# Altium footprint library AWT.PcbLib: 14 footprints
Each footprint in its own frame and in the unit in brackets; x right, y up, seen from the top. Pads: shape width x height; smd on the part's side, far side on the other; paste and mask are expansions set on the pad; w line width, h text height; cw(c..) or ccw(c..) is an arc to the next point about the centre after c.
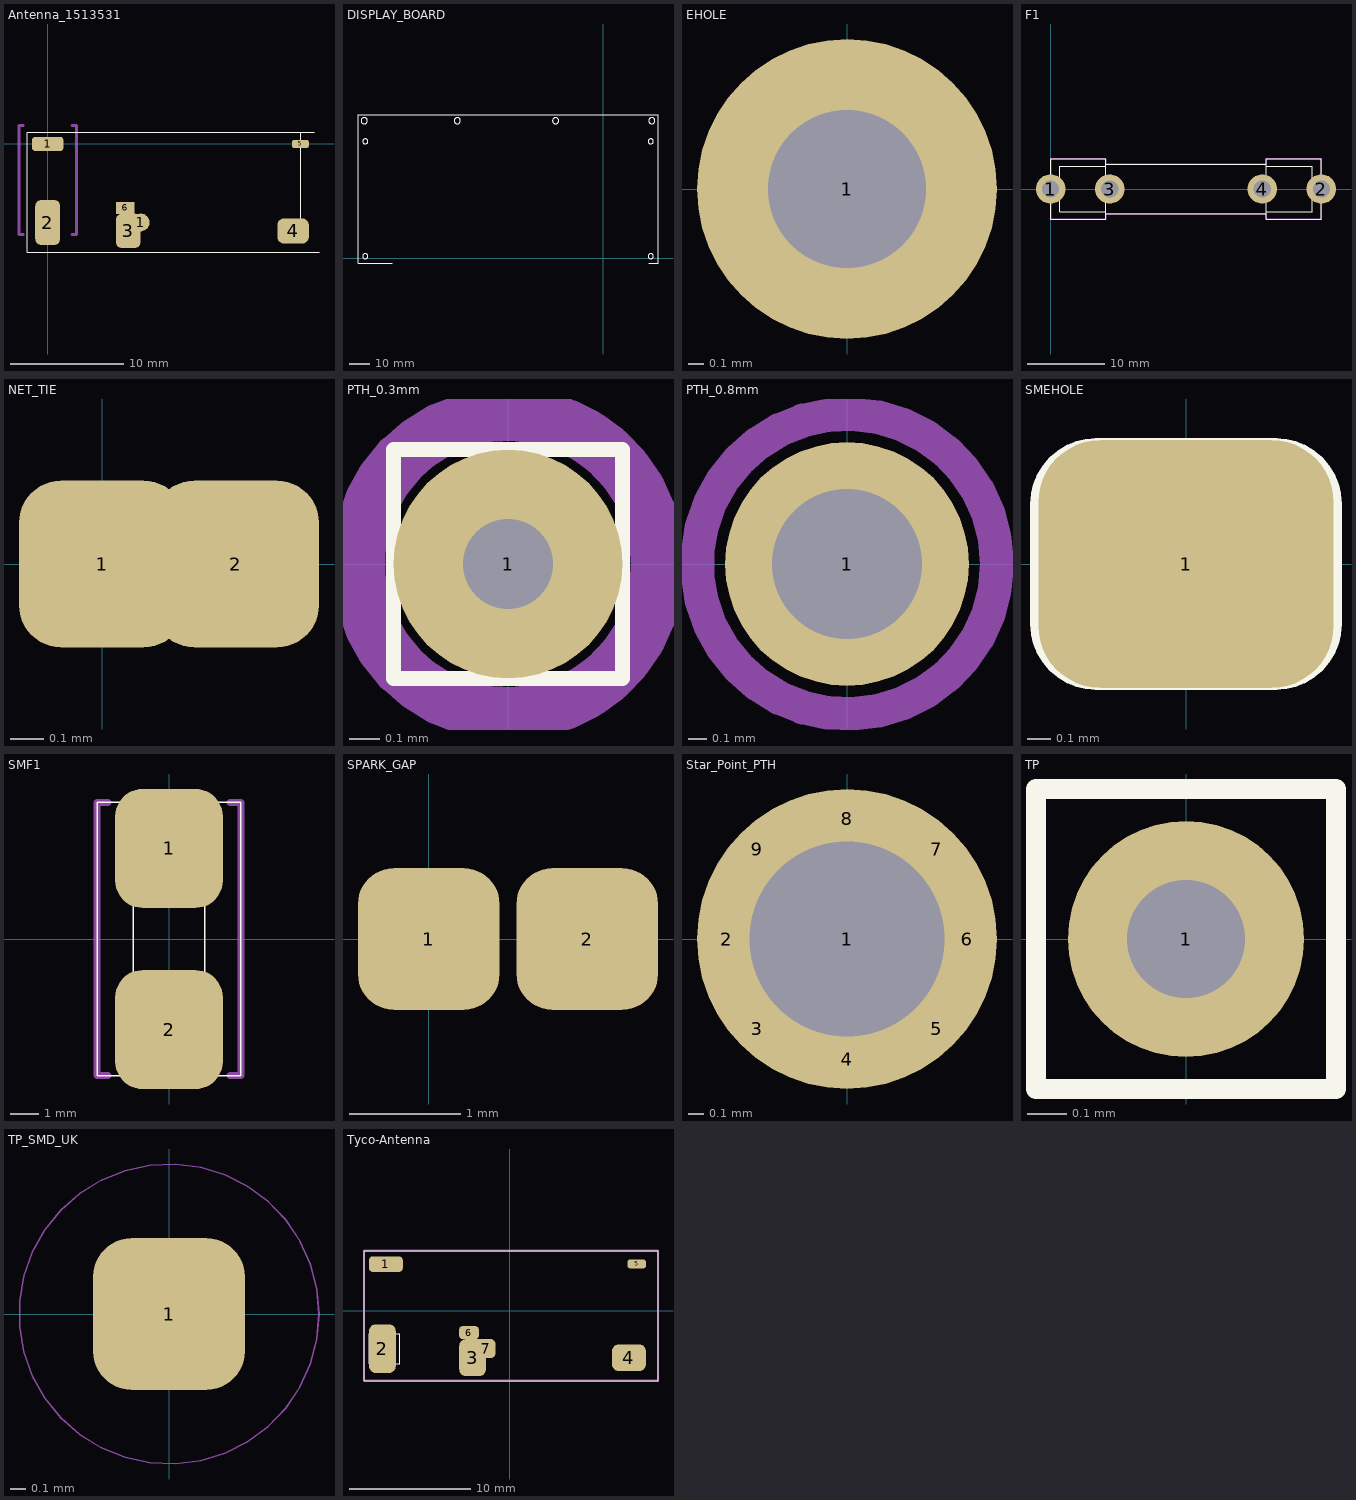
[diagram p0: the footprints below, top view; thin cyan lines are the x and y axes]

## Antenna_1513531 [mm]
pads (7):
  rrect50% 2.794x1.27 smd: 1(0,0)
  round 1.578 all layers, no hole: 1(8.225,-6.95)
  rrect50% 2.21x4.01 smd: 2(0,-6.952)
  rrect50% 2.2x3.056 smd: 3(7.127,-7.692)
  rrect50% 2.794x2.21 smd: 4(21.709,-7.701)
  rrect50% 1.5x0.71 smd: 5(22.351,0)
  rect 1.613x1.059 all layers, no hole: 6(6.85,-5.65)
Top Overlay:
  lines w0.05: -1.8,1 -1.8,-9.6 24,-9.6 ; -1.8,1.02 23.575,1.02 ; 22.4,-8.676 22.4,0.976
Comp Silk:
  lines w0.25: -2.159,-8.026 -2.54,-8.026 -2.54,1.626 -2.159,1.626 ; 2.159,-8.026 2.54,-8.026 2.54,1.626 2.159,1.626
  text ".Designator" at -0.762,-7.899 h1.5

## DISPLAY_BOARD [mm] "Size 145 x 72.5mm, Rev. 1"
height 16.5
pads (1):
  round 0 all layers, no hole: 1(0,0)
Top Overlay:
  circle w0.05: c23,56.5 r1.25
  circle w0.05: c-115,56.5 r1.25
  circle w0.05: c-115,1 r1.25
  circle w0.05: c23,1 r1.25
  circle w0.05: c-23,66.5 r1.5
  circle w0.05: c-70.5,66.5 r1.5
  circle w0.05: c23.5,66.5 r1.5
  circle w0.05: c-115.5,66.5 r1.5
  lines w0.05: -102,-2.5 -118.5,-2.5 -118.5,69.5 0.5,69.5 26.5,69.5 26.5,-2.5 22,-2.5
Comp Silk:
  text ".Designator" at -0.762,0.381 h1.5

## EHOLE [mm]
pads (1):
  round 1.9 / inner round 1 / far side round 1.9 hole 1: 1(0,0)
Top Overlay:
  circle w0.05: c0,0 r0.508
Comp Silk:
  text ".Designator" at -0.762,0.381 h1.5

## F1 [mm]
height 10.668
pads (4):
  round 3.8 / inner round 2.2 / far side round 3.8 hole 2.2: 1(0,0) 2(34.925,0) 3(7.62,0) 4(27.305,0)
Top Overlay:
  lines w0.05: 0,-0.762 1.143,-0.762 ; 0,0.762 1.143,0.762 ; 7.112,-3.175 27.813,-3.175 ; 7.112,-2.921 1.143,-2.921 1.143,2.921 7.112,2.921 ; 7.112,3.175 27.813,3.175 ; 27.813,-2.921 33.782,-2.921 33.782,2.921 27.813,2.921 ; 33.782,-0.762 34.925,-0.762 ; 33.782,0.762 34.925,0.762 ; 0,-3.937 7.112,-3.937 7.112,3.937 0,3.937 0,0 0,-3.937 ; 27.813,-3.937 34.925,-3.937 34.925,3.937 27.813,3.937 27.813,0 27.813,-3.937
Comp Silk:
  lines w0.18: 0,-3.937 7.112,-3.937 7.112,-3.175 27.813,-3.175 27.813,-3.937 34.925,-3.937 34.925,3.937 27.813,3.937 27.813,3.175 7.112,3.175 7.112,3.937 0,3.937 0,0 0,-3.937
  text ".Designator" at 8.763,1.016 h1.52

## NET_TIE [mm] "Intended copper short between nets."
pads (2):
  rrect50% 0.5x0.5 smd: 1(0,0) 2(0.4,0)
Comp Silk:
  text ".Designator" at 0.1,0.4 h1.5

## PTH_0.3mm [mil] "Hole for soldering wire to. Rev.1"
height 0.39
pads (1):
  round 30 hole 11.81: 1(0,0)
Top Overlay:
  lines w1.97: -15,-15 15,-15 15,-7.5 15,7.5 15,15 7.5,15 -7.5,15 -15,15 -15,-15
Comp Silk:
  circle w7.09: c0,0 r19.68
  text ".Designator" at -43.31,-11.81 h59.06

## PTH_0.8mm [mm] "Hole for soldering wire to. Rev.1"
height 0.01
pads (1):
  round 1.3 hole 0.8: 1(0,0)
Top Overlay:
  lines w0.05: -0.381,-0.381 0.381,-0.381 0.381,-0.191 0.381,0.191 0.381,0.381 0.191,0.381 -0.191,0.381 -0.381,0.381 -0.381,-0.381
Comp Silk:
  circle w0.18: c0,0 r0.8
  text ".Designator" at -1.1,-0.3 h1.5

## SMEHOLE [mm]
pads (1):
  rrect50% 1.25x1.05 smd: 1(0,0)
Top Overlay:
  lines w0.05: -0.635,-0.254 ccw(c-0.381,-0.254) -0.381,-0.508 0.381,-0.508 ccw(c0.381,-0.254) 0.635,-0.254 0.635,0.254 ccw(c0.381,0.254) 0.381,0.508 -0.381,0.508 ccw(c-0.381,0.254) -0.635,0.254 -0.635,-0.254
Comp Silk:
  text ".Designator" at -0.762,0.254 h1.5

## SMF1 [mm]
pads (2):
  rrect50% 3.8x4.2 smd: 1(0,3.2) 2(0,-3.2)
Top Overlay:
  lines w0.05: -1.27,-4.826 -1.27,-5.08 1.27,-5.08 1.27,-4.826 ; -1.27,-1.778 -1.27,1.778 ; -1.27,4.826 -1.27,5.08 1.27,5.08 1.27,4.826 ; -0.381,-3.175 -0.381,-3.048 ; -0.381,3.048 -0.381,3.175 ; 0.381,-3.175 0.381,-3.048 ; 0.381,3.048 0.381,3.175 ; 1.27,-1.778 1.27,1.778 ; -1.397,-3.048 1.397,-3.048 ; -1.397,-3.048 -1.397,-1.778 1.397,-1.778 1.397,-3.048 ; -1.397,-3.048 -1.397,-4.191 -0.762,-4.191 -0.762,-3.175 0.762,-3.175 0.762,-4.191 1.397,-4.191 1.397,-3.048 ; -1.397,3.048 1.397,3.048 ; -1.397,3.048 -1.397,1.778 -1.27,1.778 ; -1.397,3.048 -1.397,4.191 -0.762,4.191 -0.762,3.175 0.762,3.175 0.762,4.191 1.397,4.191 1.397,3.048 ; -1.27,1.778 1.397,1.778 1.397,3.048 ; -2.54,-4.826 -2.54,4.826 2.54,4.826 2.54,-4.826 -2.54,-4.826
Comp Silk:
  lines w0.25: -2.159,-4.826 -2.54,-4.826 -2.54,4.826 -2.159,4.826 ; 2.159,-4.826 2.54,-4.826 2.54,4.826 2.159,4.826
  text ".Designator" at -0.762,-4.699 h1.5

## SPARK_GAP [mil]
pads (2):
  rrect50% 50x50 smd: 1(0,0) 2(56,0)

## Star_Point_PTH [mm] "Star Point  Rev. 2"
height 0.01
pads (9):
  round 2 hole 1.3: 1(0,0)
  round 0.3 all layers, no hole: 2(-0.8,0) 3(-0.6,-0.6) 4(0,-0.8) 5(0.6,-0.6) 6(0.8,0) 7(0.6,0.6) 8(0,0.8) 9(-0.6,0.6)
Comp Silk:
  text ".Designator" at 0,0 h1.5

## TP [mm]
pads (1):
  round 0.6 / inner round 0.3 / far side round 0.6 hole 0.3: 1(0,0)
Top Overlay:
  lines w0.05: -0.381,-0.381 -0.381,0.381 0.381,0.381 0.381,-0.381 -0.381,-0.381
Comp Silk:
  text ".Designator" at -0.508,0.127 h1.5

## TP_SMD_UK [mm] "Test Probe UK - as per AP-3-5057 Rev. 3"
height 0.1
pads (1):
  rrect50% 1x1 smd: 1(0,0)
Comp Courtyard:
  circle w0.01: c0,0 r0.99
Comp Silk:
  text ".Designator" at -0.5,0.2 h1.5
3D body: height 0.1, standoff 0, extent -0.989,-0.989 0.989,0.989

## Tyco-Antenna [mm] "1513531-1 REV1"
height 3
pads (7):
  rrect50% 2.794x1.27 smd: 1(-10.179,3.841)
  rrect50% 2.21x4.013 smd: 2(-10.47,-3.111)
  rrect50% 2.2x3.056 smd: 3(-3.045,-3.851)
  rrect50% 2.794x2.21 smd: 4(9.829,-3.86)
  rrect50% 1.5x0.711 smd: 5(10.47,3.86)
  rrect50% 1.613x1.059 smd: 6(-3.339,-1.794)
  rrect50% 1.575x1.575 smd: 7(-1.946,-3.111)
Top Overlay:
  circle w0.1: c-10.279,-3.084 r0.5
  lines w0.05: -11.554,-4.375 -9.054,-4.375 -9.054,-1.875 -11.554,-1.875 ; -11.55,-4.375 -11.55,-1.875 ; -11.979,-5.759 -11.979,4.941 12.221,4.941 12.221,-5.759 -11.979,-5.759
Comp Silk:
  lines w0.18: -11.979,-5.759 -11.979,4.941 12.221,4.941 12.221,-5.759 -11.979,-5.759
  text ".Designator" at 0.975,-0.7 h1.5